# Altium schematic symbol library Q_PFET_DUAL_8PIN.SchLib: 1 symbol
Pins are listed as number, name and electrical type; pins without a type are passive.

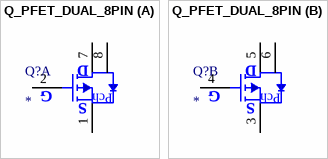
[diagram p0: symbol Q_PFET_DUAL_8PIN]

## Q_PFET_DUAL_8PIN
designator Q?
part A pins: 1 (power) "SOURCE", 2 (power) "Gate", 7 (power) "DRAIN", 8 (power) "DRAIN"
part B pins: 3 (power) "SOURCE", 4 (power) "GATE", 5 (power) "DRAIN", 6 (power) "DRAIN"
part A text: D; G; Pch; S
part B text: D; G; Pch; S